# EAGLE library part 74AC11000 (library EW_IC_74_Logic)
digital n-input nand gate. Category: Gates Manufacturer: Generic
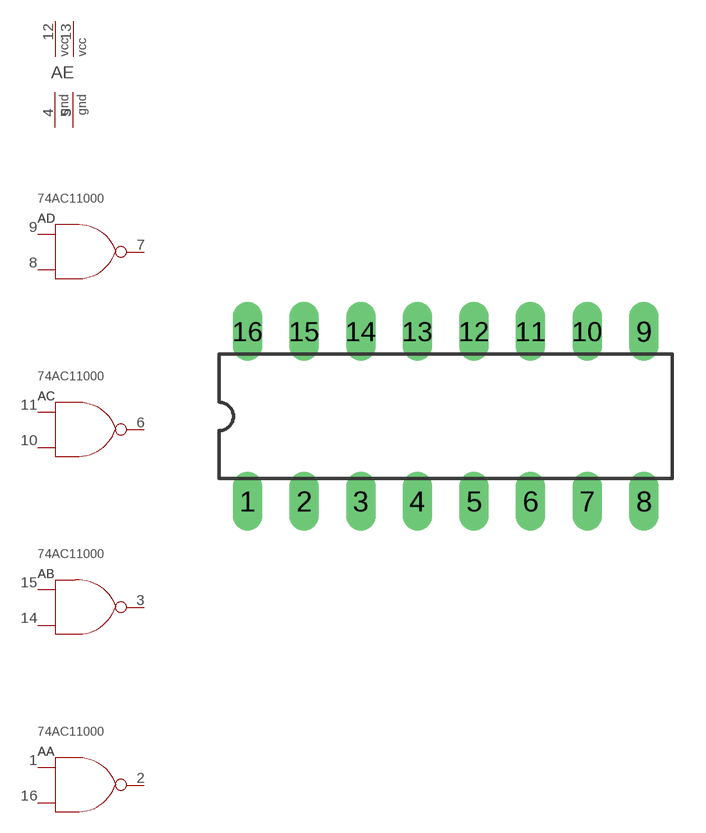
[diagram p368: symbol with the pads of DIL16; footprint DIL16]

Designator prefix A; gates A=NAND_2 B=NAND_2 C=NAND_2 D=NAND_2 E=2PWR2GND_1

## 74AC11000  [DIL16]
1  A:A  pwr
2  A:Y  pwr
3  B:Y  pwr
4  E:GND  pwr
5  E:GND  pwr
6  C:Y  pwr
7  D:Y  pwr
8  D:B  pwr
9  D:A  pwr
10  C:B  pwr
11  C:A  pwr
12  E:VCC  pwr
13  E:VCC  pwr
14  B:B  pwr
15  B:A  pwr
16  A:B  pwr

## Footprint DIL16 (pad centres in mm)
SOCKET Dual In Line
drill 0.813 long: 1 -8.89,-3.81; 2 -6.35,-3.81; 3 -3.81,-3.81; 4 -1.27,-3.81; 5 1.27,-3.81; 6 3.81,-3.81; 7 6.35,-3.81; 8 8.89,-3.81; 9 8.89,3.81; 10 6.35,3.81; 11 3.81,3.81; 12 1.27,3.81; 13 -1.27,3.81; 14 -3.81,3.81; 15 -6.35,3.81; 16 -8.89,3.81